# Altium schematic symbol library NaviGo v3.0.SchLib: 32 symbols
Pins are listed as number, name and electrical type; pins without a type are passive.

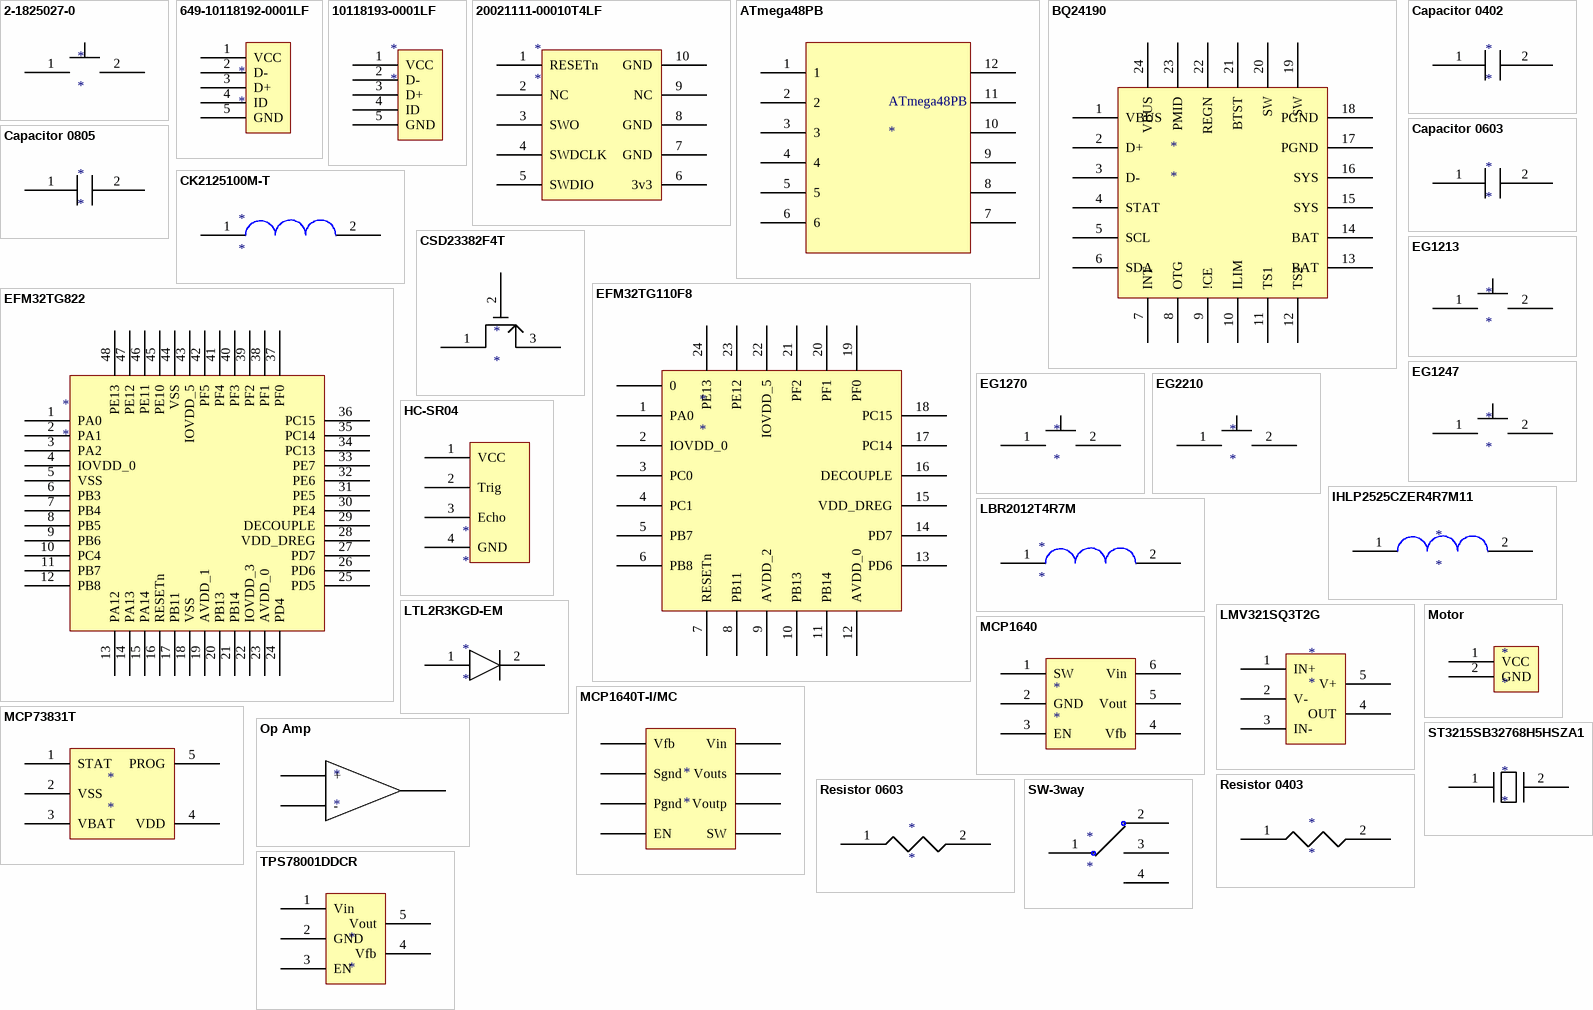
[diagram p0: symbols 2-1825027-0 to TPS78001DDCR]

## 2-1825027-0
designator *
footprint 2-1825027-0
pins: 1, 2

## 649-10118192-0001LF
designator *
footprint 649-10118192-0001LF
pins: 1 VCC, 2 D-, 3 D+, 4 ID, 5 GND

## 10118193-0001LF
designator *
footprint 10118193-0001LF
pins: 1 VCC, 2 D-, 3 D+, 4 ID, 5 GND

## 20021111-00010T4LF
designator *
footprint 20021111-00010T4LF
pins: 1 RESETn, 2 NC, 3 SWO, 4 SWDCLK, 5 SWDIO, 6 3v3, 7 GND, 8 GND, 9 NC, 10 GND

## ATmega48PB
designator ATmega48PB
pins: 1, 2, 3, 4, 5, 6, 7, 8, 9, 10, 11, 12

## BQ24190
designator *
pins: 1 VBUS, 2 D+, 3 D-, 4 STAT, 5 SCL, 6 SDA, 7 INT, 8 OTG, 9 !CE, 10 ILIM, 11 TS1, 12 TS2, 13 BAT, 14 BAT, 15 SYS, 16 SYS, 17 PGND, 18 PGND, 19 SW, 20 SW, 21 BTST, 22 REGN, 23 PMID, 24 VBUS

## Capacitor 0402
designator *
footprint Capacitor 0402
pins: 1, 2

## Capacitor 0603
designator *
footprint Capacitor 0603
pins: 1, 2

## Capacitor 0805
designator *
footprint Capacitor 0805
pins: 1, 2

## CK2125100M-T
designator *
footprint CK2125100M-T
pins: 1, 2

## CSD23382F4T
designator *
footprint CSD23382F4T
pins: 1, 2, 3

## EFM32TG110F8
designator *
footprint EFM32TG110F8
pins: 0, 1 PA0, 2 IOVDD_0, 3 PC0, 4 PC1, 5 PB7, 6 PB8, 7 RESETn, 8 PB11, 9 AVDD_2, 10 PB13, 11 PB14, 12 AVDD_0, 13 PD6, 14 PD7, 15 VDD_DREG, 16 DECOUPLE, 17 PC14, 18 PC15, 19 PF0, 20 PF1, 21 PF2, 22 IOVDD_5, 23 PE12, 24 PE13

## EFM32TG822
designator *
footprint EFM32TG822
pins: 1 PA0, 2 PA1, 3 PA2, 4 IOVDD_0, 5 VSS, 6 PB3, 7 PB4, 8 PB5, 9 PB6, 10 PC4, 11 PB7, 12 PB8, 13 PA12, 14 PA13, 15 PA14, 16 RESETn, 17 PB11, 18 VSS, 19 AVDD_1, 20 PB13, 21 PB14, 22 IOVDD_3, 23 AVDD_0, 24 PD4, 25 PD5, 26 PD6, 27 PD7, 28 VDD_DREG, 29 DECOUPLE, 30 PE4, 31 PE5, 32 PE6, 33 PE7, 34 PC13, 35 PC14, 36 PC15, 37 PF0, 38 PF1, 39 PF2, 40 PF3, 41 PF4, 42 PF5, 43 IOVDD_5, 44 VSS, 45 PE10, 46 PE11, 47 PE12, 48 PE13

## EG1213
designator *
footprint EG1213
pins: 1, 2

## EG1247
designator *
footprint EG1247
pins: 1, 2

## EG1270
designator *
footprint EG1270
pins: 1, 2

## EG2210
designator *
footprint EG2210
pins: 1, 2

## HC-SR04
designator *
pins: 1 VCC, 2 Trig, 3 Echo, 4 GND

## IHLP2525CZER4R7M11
designator *
footprint IHLP2525CZER4R7M11
pins: 1, 2

## LBR2012T4R7M
designator *
footprint LBR2012T4R7M
pins: 1, 2

## LMV321SQ3T2G
designator *
footprint LMV321SQ3T2G
pins: 1 IN+, 2 V-, 3 IN-, 4 OUT, 5 V+

## LTL2R3KGD-EM
designator *
footprint LTL2R3KGD-EM
pins: 1, 2

## MCP1640
designator *
footprint MCP1640
pins: 1 SW, 2 GND, 3 EN, 4 Vfb, 5 Vout, 6 Vin

## MCP1640T-I/MC
designator *
footprint MCP1640T-I/MC
pins: 1 Vfb, 2 Sgnd, 3 Pgnd, 4 EN, 5 SW, 6 Voutp, 7 Vouts, 8 Vin

## MCP73831T
designator *
footprint MCP73831T
pins: 1 STAT, 2 VSS, 3 VBAT, 4 VDD, 5 PROG

## Motor
designator *
footprint Motor
pins: 1 VCC, 2 GND

## Op Amp
designator *
pins: 1 +, 2 -, 3

## Resistor 0403
designator *
footprint Resistor 0403
pins: 1, 2

## Resistor 0603
designator *
footprint Resistor 0603
pins: 1, 2

## ST3215SB32768H5HSZA1
designator *
footprint ST3215SB32768H5HSZA1
pins: 1, 2

## SW-3way
designator *
pins: 1, 2, 3, 4

## TPS78001DDCR
designator *
footprint TPS78001DDCR
pins: 1 Vin, 2 GND, 3 EN, 4 Vfb, 5 Vout